# EAGLE library part TCA6416A (library wheat)
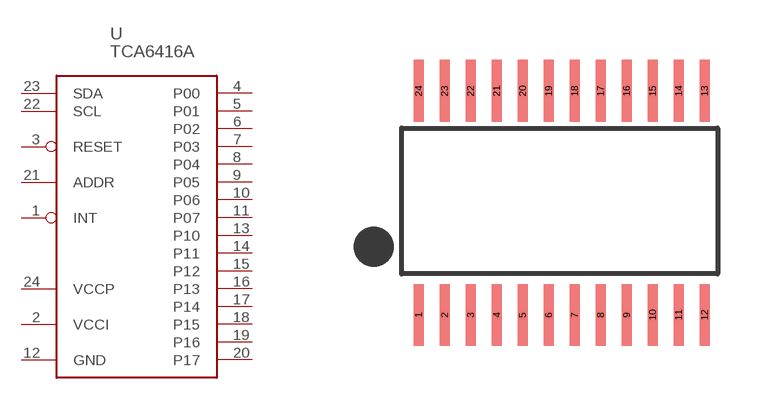
[diagram p182: symbol with the pads of TSSOP24; footprint TSSOP24]

Designator prefix U

## TCA6416ADW  [TSSOP24]
1  INT  hiz
2  VCCI  sup
3  RESET  in
4  P00
5  P01
6  P02
7  P03
8  P04
9  P05
10  P06
11  P07
12  GND  sup
13  P10
14  P11
15  P12
16  P13
17  P14
18  P15
19  P16
20  P17
21  ADDR  in
22  SCL
23  SDA
24  VCCP  hiz

## Footprint TSSOP24 (pad centres in mm)
smd 0.25 x 1.55: 1 -3.575,-2.8; 2 -2.925,-2.8; 3 -2.275,-2.8; 4 -1.625,-2.8; 5 -0.975,-2.8; 6 -0.325,-2.8; 7 0.325,-2.8; 8 0.975,-2.8; 9 1.625,-2.8; 10 2.275,-2.8; 11 2.925,-2.8; 12 3.575,-2.8; 13 3.575,2.8; 14 2.925,2.8; 15 2.275,2.8; 16 1.625,2.8; 17 0.975,2.8; 18 0.325,2.8; 19 -0.325,2.8; 20 -0.975,2.8; 21 -1.625,2.8; 22 -2.275,2.8; 23 -2.925,2.8; 24 -3.575,2.8